# Altium schematic symbol library IC_ON_Semiconductor_LM2576D2T-005G_eec.SchLib: 1 symbol
Pins are listed as number, name and electrical type; pins without a type are passive.

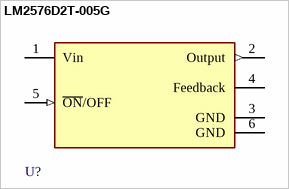
[diagram p0: symbol LM2576D2T-005G]

## LM2576D2T-005G
designator U?  (value not drawn)
pins: 1 Vin (power), 2 Output (out), 3 GND (power), 4 Feedback, 5 ~{ON}/OFF (in), 6 GND (power)